# EAGLE library part MICROCHIP_MCP14A0302 (library RVschwarzenegger_Controller_RevA)
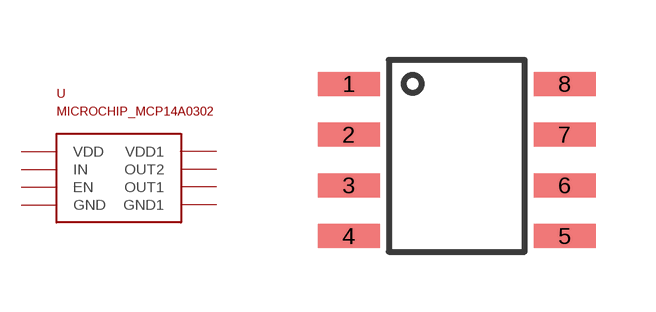
[diagram p3: symbol with the pads of MICROCHIP_MCP14A0302; footprint MICROCHIP_MCP14A0302]

Designator prefix U

## MICROCHIP_MCP14A0302  [MICROCHIP_MCP14A0302]
1  VDD
2  IN
3  EN
4  GND
5  GND1
6  OUT1
7  OUT2
8  VDD1

## Footprint MICROCHIP_MCP14A0302 (pad centres in mm)
smd 1.55 x 0.6: 1 0,0; 2 0,-1.27; 3 0,-2.54; 4 0,-3.81; 5 5.4,-3.81; 6 5.4,-2.54; 7 5.4,-1.27; 8 5.4,0